# EAGLE library part MP45DT02 (library FarnellThings)
SENSOR, ACOUSTIC, 120DBSPL, 6HLGA
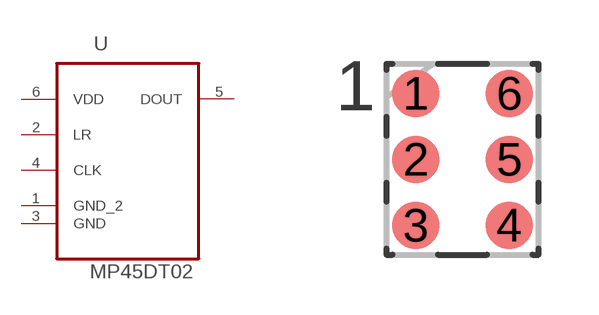
[diagram p8: symbol with the pads of STM_HLGA-6; footprint STM_HLGA-6]

Designator prefix U

## MP45DT02 (MPN: MP45DT02; OC_FARNELL: 2082418; OC_NEWARK: 83T7185; PACKAGE: HLGA 4.72 x 3.76 6LD; SUPPLIER: STMicroelectronics)  [STM_HLGA-6]
1  GND_2  pwr
2  LR  pas
3  GND  pwr
4  CLK  in
5  DOUT  out
6  VDD  pwr

## Footprint STM_HLGA-6 (pad centres in mm)
smd 1.194 x 1.194: 1 -1.168,1.651; 2 -1.168,0; 3 -1.168,-1.651; 4 1.168,-1.651; 5 1.168,0; 6 1.168,1.651